# EAGLE library part CONN_BACKPLANE_ESC_ADAPTER_NEW (library X16_Backplane)
ESC Adapter to Backplane
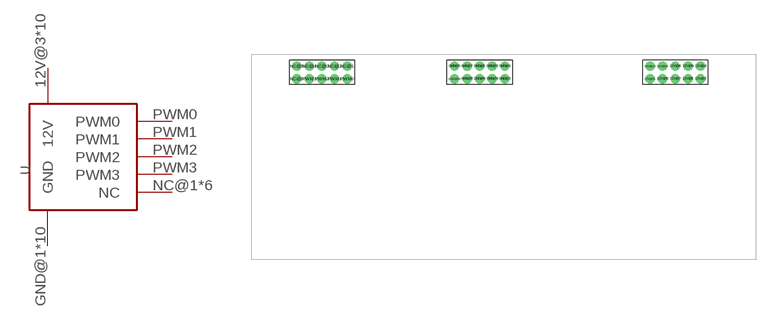
[diagram p9: symbol with the pads of CONN_BACKPLANE_ESC_ADAPTER; footprint CONN_BACKPLANE_ESC_ADAPTER]

Designator prefix -

## CONN_BACKPLANE_ESC_ADAPTER_NEW  [CONN_BACKPLANE_ESC_ADAPTER]
12V@3  12V
12V@4  12V
12V@5  12V
12V@6  12V
12V@7  12V
12V@8  12V
12V@9  12V
12V@10  12V
12V@11  12V
12V@12  12V
GND@1  GND
GND@2  GND
GND@3  GND
GND@4  GND
GND@5  GND
GND@6  GND
GND@7  GND
GND@8  GND
GND@9  GND
GND@10  GND
NC@1  NC
NC@2  NC
NC@3  NC
NC@4  NC
NC@5  NC
NC@6  NC
PWM0  PWM0
PWM1  PWM1
PWM2  PWM2
PWM3  PWM3

## Footprint CONN_BACKPLANE_ESC_ADAPTER (pad centres in mm)
drill 1.016 pad 1.88: 12V@3 90.424,36.322; 12V@4 90.424,38.862; 12V@5 87.884,36.322; 12V@6 87.884,38.862; 12V@7 85.344,36.322; 12V@8 85.344,38.862; 12V@9 82.804,36.322; 12V@10 82.804,38.862; 12V@11 80.264,36.322; 12V@12 80.264,38.862; GND@1 51.054,38.862; GND@2 51.054,36.322; GND@3 48.514,38.862; GND@4 48.514,36.322; GND@5 45.974,38.862; GND@6 45.974,36.322; GND@7 43.434,38.862; GND@8 43.434,36.322; GND@9 40.894,38.862; GND@10 40.894,36.322; NC@1 19.304,38.862; NC@2 16.764,38.862; NC@3 14.224,38.862; NC@4 11.684,38.862; NC@5 9.144,38.862; NC@6 9.144,36.322; PWM0 19.304,36.322; PWM1 16.764,36.322; PWM2 14.224,36.322; PWM3 11.684,36.322